# EAGLE library part N-DUAL-MOSFET (library 1dah)
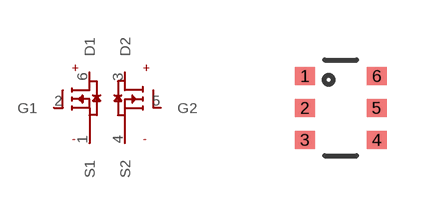
[diagram p59: symbol with the pads of SOT-363; footprint SOT-363]

Designator prefix -

## N-DUAL-MOSFET  [SOT-363]
1  S1
2  G1
3  D2
4  S2
5  G2
6  D1

## Footprint SOT-363 (pad centres in mm)
smd 0.5 x 0.45: 1 -0.9,0.8; 2 -0.9,0; 3 -0.9,-0.8; 4 0.9,-0.8; 5 0.9,0; 6 0.9,0.8